# Altium footprint library TEXASINSTRUMENTS_PKG_DDA0008B.PcbLib: 1 footprints
Each footprint in its own frame and in the unit in brackets; x right, y up, seen from the top. Pads: shape width x height; smd on the part's side, far side on the other; paste and mask are expansions set on the pad; w line width, h text height; cw(c..) or ccw(c..) is an arc to the next point about the centre after c.
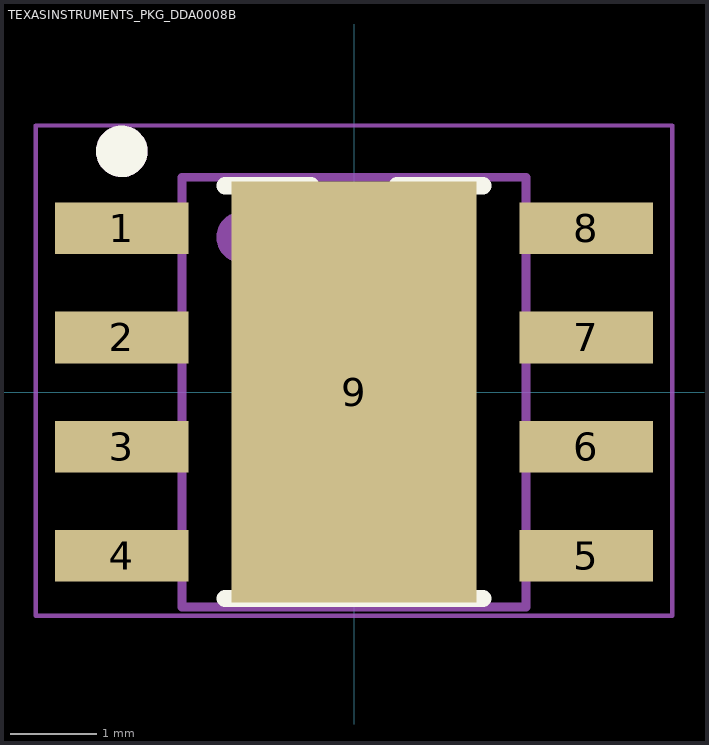
[diagram p0: the footprint, top view; thin cyan lines are the x and y axes]

## TEXASINSTRUMENTS_PKG_DDA0008B [mm]
height 1.7
pads (9):
  rect 1.55x0.6 smd: 1(-2.7,1.905) 2(-2.7,0.635) 3(-2.7,-0.635) 4(-2.7,-1.905) 5(2.7,-1.905) 6(2.7,-0.635) 7(2.7,0.635) 8(2.7,1.905)
  rect 2.85x4.9 smd paste-2539.97 mask+0.102: 9(0,0)
Top Overlay:
  circle w0.3: c-2.7,2.8 r0.15
  lines w0.2: -1.5,-2.4 1.5,-2.4 ; -1.5,2.4 -0.5,2.4 ccw(c0,2.4) 0.5,2.4 1.5,2.4
Top Paste:
  rectangle: -1.255,-1.6 1.255,1.6
Top Solder:
  rectangle: -1.355,-1.7 1.355,1.7
Mechanical 13:
  circle w0.3: c-2.7,2.8 r0.15
  circle w0.3: c-1.3,1.8 r0.15
  lines w0.1: -2,-2.5 2,-2.5 2,2.5 -2,2.5 -2,-2.5
Mechanical 15:
  lines w0.05: -3.7,-2.6 3.7,-2.6 3.7,3.1 -3.7,3.1 -3.7,-2.6
  lines w0.1: -0.5,0 0.5,0 ; 0,-0.5 0,0.5
3D body: height 1.7, standoff 0, extent -2,-2.5 2,2.5